# EAGLE library part RS232C (library ic)
RS232 Transeiver
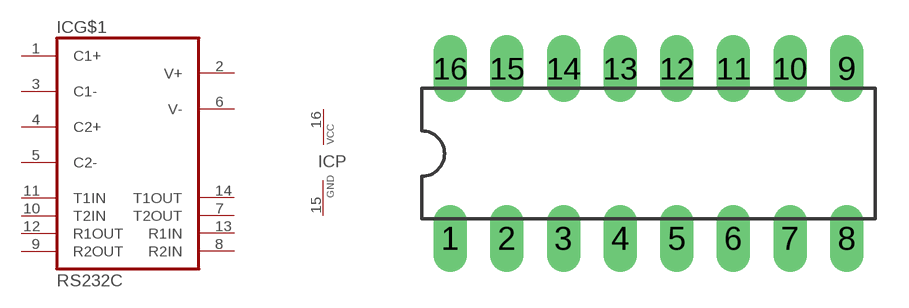
[diagram p0: symbol with the pads of 16PIN; footprint 16PIN]

Designator prefix IC; gates G$1=MAX232 P=VCC-GND

## RS232C  [16PIN]
1  G$1:C1+  pas
2  G$1:V+  pas
3  G$1:C1-  pas
4  G$1:C2+  pas
5  G$1:C2-  pas
6  G$1:V-  pas
7  G$1:T2OUT  pas
8  G$1:R2IN  pas
9  G$1:R2OUT  pas
10  G$1:T2IN  pas
11  G$1:T1IN  pas
12  G$1:R1OUT  pas
13  G$1:R1IN  pas
14  G$1:T1OUT  pas
15  P:GND  pwr
16  P:VCC  pwr

## Footprint 16PIN (pad centres in mm)
drill 0.8 pad 1.499 long: 1 -8.89,-3.81; 2 -6.35,-3.81; 3 -3.81,-3.81; 4 -1.27,-3.81; 5 1.27,-3.81; 6 3.81,-3.81; 7 6.35,-3.81; 8 8.89,-3.81; 9 8.89,3.81; 10 6.35,3.81; 11 3.81,3.81; 12 1.27,3.81; 13 -1.27,3.81; 14 -3.81,3.81; 15 -6.35,3.81; 16 -8.89,3.81